# Altium footprint library RGB-Cube.PcbLib: 5 footprints
Each footprint in its own frame and in the unit in brackets; x right, y up, seen from the top. Pads: shape width x height; smd on the part's side, far side on the other; paste and mask are expansions set on the pad; w line width, h text height; cw(c..) or ccw(c..) is an arc to the next point about the centre after c.
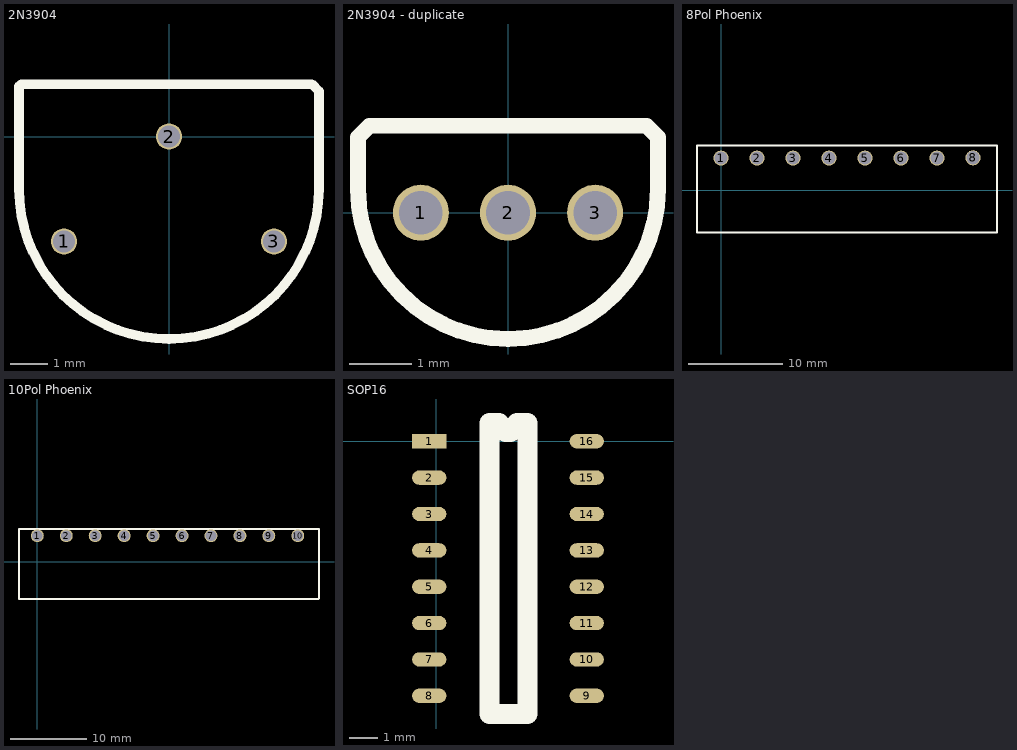
[diagram p0: the footprints below, top view; thin cyan lines are the x and y axes]

## 2N3904 [mm] "Farnell: 1700648"
height 10
pads (3):
  round 0.7 hole 0.6: 1(-2.8,-2.8) 2(0,0) 3(2.8,-2.8)
Top Overlay:
  lines w0.254: -4,-1.4 ccw(c0,-1.4) 4,-1.4 4,1.207 3.81,1.397 3.556,1.397 -3.937,1.397 -4,1.334 -4,-1.4

## 2N3904 - duplicate [mm] "Farnell: 1700648"
height 10
pads (3):
  round 0.9 hole 0.7: 1(-1.4,0) 2(0,0) 3(1.4,0)
Top Overlay:
  lines w0.254: -2.41,0.381 ccw(c0,0.381) 2.41,0.381 2.41,1.212 2.225,1.397 -2.225,1.397 -2.41,1.212 -2.41,0.381
3D body: height 7.7, standoff -1.6, extent -2.765,-2.794 2.765,1.284

## 8Pol Phoenix [mm] "Phoenix: 1803332"
height 7.7
pads (8):
  round 1.6 hole 1.4: 1(0,3.4) 2(3.81,3.4) 3(7.62,3.4) 4(11.43,3.4) 5(15.24,3.4) 6(19.05,3.4) 7(22.86,3.4) 8(26.67,3.429)
Top Overlay:
  lines w0.254: -2.54,-4.473 29.21,-4.473 29.21,4.727 -2.54,4.727 -2.54,-4.473
3D body: height 3.4, standoff -7.25, extent -2.6,-4.572 29.27,4.728

## 10Pol Phoenix [mm]
height 7.7
pads (10):
  round 1.7 hole 1.4: 1(0,3.4) 2(3.81,3.4) 3(7.62,3.4) 4(11.43,3.4) 5(15.24,3.4) 6(19.05,3.4) 7(22.86,3.4) 8(26.67,3.4) 9(30.48,3.4) 10(34.29,3.4)
Top Overlay:
  lines w0.254: -2.413,-4.953 36.957,-4.953 37.084,-4.826 37.084,4.318 -2.413,4.318 -2.413,-4.953
3D body: height 3.9, standoff -6.75, extent -2.473,-4.826 37.017,4.474

## SOP16 [mm]
height 3
pads (16):
  rect 1.2x0.5 smd: 1(-0.25,0)
  oval 1.2x0.5 smd: 2(-0.25,-1.27) 3(-0.25,-2.54) 4(-0.25,-3.81) 5(-0.25,-5.08) 6(-0.25,-6.35) 7(-0.25,-7.62) 8(-0.25,-8.89) 9(5.25,-8.89) 10(5.25,-7.62) 11(5.25,-6.35) 12(5.25,-5.08) 13(5.25,-3.81) 14(5.25,-2.54) 15(5.25,-1.27) 16(5.25,0)
Top Overlay:
  lines w0.7: 1.86,-9.525 3.175,-9.525 3.175,0.635 2.818,0.635 cw(c2.5,0.635) 2.183,0.635 1.86,0.635 1.86,-9.525